# Altium schematic symbol library ICs-CurrentSenseAmplifiers.SchLib: 5 symbols
Pins are listed as number, name and electrical type; pins without a type are passive.

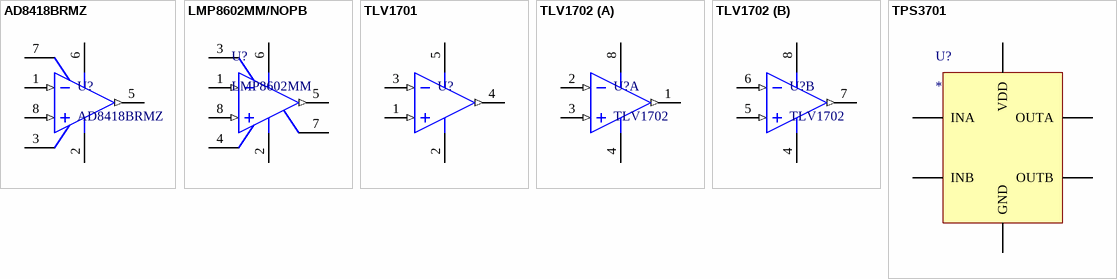
[diagram p0: symbols AD8418BRMZ to TPS3701]

## AD8418BRMZ
designator U?
Current Sense Amplifiers Zero Drift ,Precision Current Sense AMP; Manufacturer: Analog Devices; PartNumber: AD8418BRMZ; Mounting Technology: Surface Mount; PackageReference: MSOP-8; PackageDescription: SOP, 8-Leads, Body 3x3mm, Pitch 0.65mm, IPC Medium Density
footprint MSOP-8 (SOP, 8-Leads, Body 3x3mm, Pitch 0.65mm, IPC Medium Density)
pins: 1 IN- (in), 2 GND (power), 3 VREF2, 5 OUT (out), 6 VS (power), 7 VREF1, 8 IN+ (in)

## LMP8602MM/NOPB
designator U?, comment LMP8602MM
Current Sense Amplifiers 60-V, Bi-Directional, Low- or High-Side, Voltage Output Current Sensing Amplifier 8-VSSOP -40 to 125; Manufacturer: Texas Instruments; PartNumber: LMP8602MM/NOPB; Mounting Technology: Surface Mount; PackageReference: MSOP-8
footprint MSOP-8 (SOP, 8-Leads, Body 3x3mm, Pitch 0.65mm, IPC Medium Density)
pins: 1 IN- (in), 2 GND (power), 3 A1, 4 A2, 5 OUT (out), 6 VS (power), 7 OFS, 8 IN+ (in)

## TLV1701
designator U?  (value not drawn)
1 Channel microPower Comparator; Manufacturer: Texas Instruments; PartNumber: TLV1701; Mounting Technology: Surface Mount; PackageReference: SOT-23; PackageDescription: SOP, 5-Leads, Body 1.75x3mm, Pitch 0.6mm, IPC Medium Density
footprint SOT23/MF05A
pins: 1 IN+ (in), 2 GND (power), 3 IN- (in), 4 OUT (out), 5 VS (power)

## TLV1702
designator U?
2 Channel microPower Comparator; Manufacturer: Texas Instruments; PartNumber: TLV1702; Mounting Technology: Surface Mount; PackageReference: VSSOP-8; PackageDescription: SOP, 8-Leads, Body 3x3mm, Pitch 0.65mm, IPC Medium Density
footprint TSSOP-8 (TSOP, 8-Leads, Body 3.00x3.00mm, Pitch 0.65mm, IPC Medium Density)
part A pins: 1 1OUT (out), 2 1IN- (in), 3 1IN+ (in), 4 GND (power), 8 VS (power)
part B pins: 4 GND (power), 5 2IN+ (in), 6 2IN- (in), 7 2OUT (out), 8 VS (power)

## TPS3701
designator U?
Manufacturer: Texas Instruments; PartNumber: TPS3701; Mounting Technology: Surface Mount; PackageDescription: SOP, 6-Leads, Body 3x3mm, Pitch 0.65mm, IPC Medium Density; PackageReference: SOT-23-6
footprint SOT-23-6 (SOT23, 6-Leads, Body 2.90x1.60mm, Pitch 0.95mm, IPC Medium Density)
pins: 1 OUTA, 2 GND (power), 3 INA, 4 INB, 5 VDD (power), 6 OUTB